# EAGLE library part AMC1100 (library pchvd)
AMC1100 Isolation Amplifier, 100kHz.
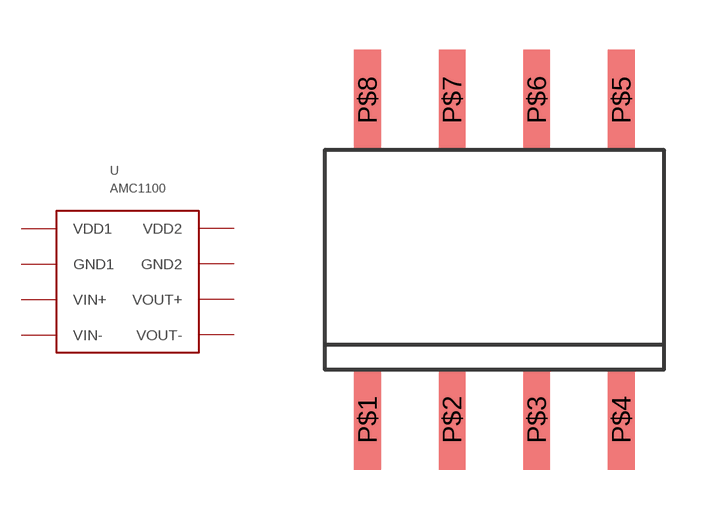
[diagram p1: symbol with the pads of SOC8; footprint SOC8]

Designator prefix U

## AMC1100SOP  [SOC8]
P$1  VDD1
P$2  VIN+
P$3  VIN-
P$4  GND1
P$5  GND2
P$6  VOUT-
P$7  VOUT+
P$8  VDD2

## Footprint SOC8 (pad centres in mm)
SOC package (DUB R-PDSO-G8 from TI.com)
smd 0.8 x 3: P$1 -7.62,-4.801; P$2 -5.08,-4.801; P$3 -2.54,-4.801; P$4 0,-4.801; P$5 0,4.801; P$6 -2.54,4.801; P$7 -5.08,4.801; P$8 -7.62,4.801